# Altium footprint library V23076A1001C133.PcbLib: 1 footprints
Each footprint in its own frame and in the unit in brackets; x right, y up, seen from the top. Pads: shape width x height; smd on the part's side, far side on the other; paste and mask are expansions set on the pad; w line width, h text height; cw(c..) or ccw(c..) is an arc to the next point about the centre after c.
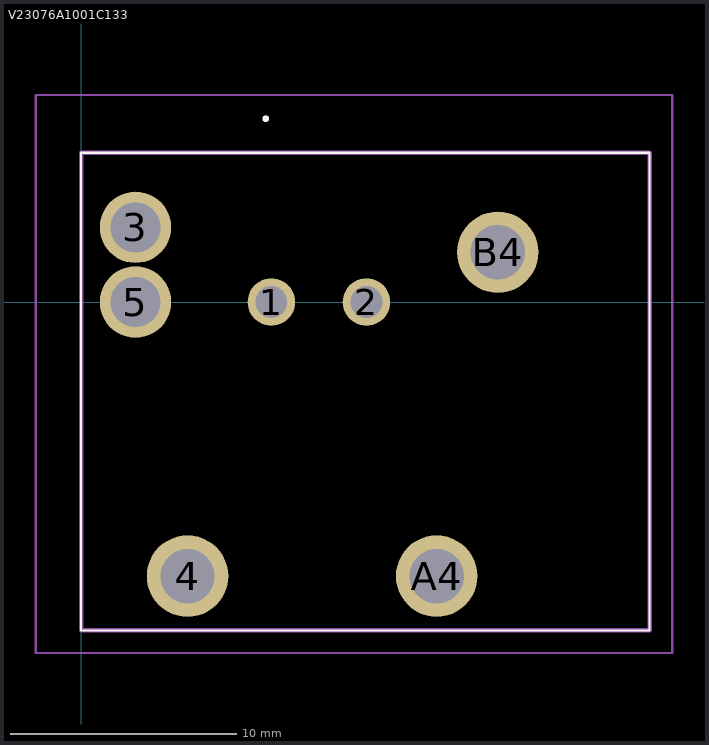
[diagram p0: the footprint, top view; thin cyan lines are the x and y axes]

## V23076A1001C133 [mm]
pads (7):
  round 2.1 hole 1.4: 1(8.4,0) 2(12.6,0)
  round 3.15 hole 2.2: 3(2.4,3.3) 5(2.4,0)
  round 3.6 hole 2.4: 4(4.7,-12.1) A4(15.7,-12.1) B4(18.4,2.2)
Top Overlay:
  lines w0.1: 0,-14.5 25.1,-14.5 25.1,6.6 0,6.6 0,-14.5
  lines w0.2: 8.1,8.1 8.1,8.1 ; 8.1,8.1 ccw(c8.15,8.1) 8.2,8.1 ; 8.1,8.1 cw(c8.15,8.1) 8.2,8.1 ; 8.1,8.1 8.1,8.1 ; 8.1,8.1 ccw(c8.15,8.1) 8.2,8.1 ; 8.2,8.1 8.2,8.1
Mechanical 15:
  lines w0.2: 0,-14.5 25.1,-14.5 25.1,6.6 0,6.6 0,-14.5
Mechanical 20:
  lines w0.1: -2,-15.5 26.1,-15.5 26.1,9.15 -2,9.15 -2,-15.5
3D body "V23076A1001C133.stp": height 5.8, standoff -4.65, extent -10,-3.376 10,3.376